# EAGLE library part IR2110 (library Labor)
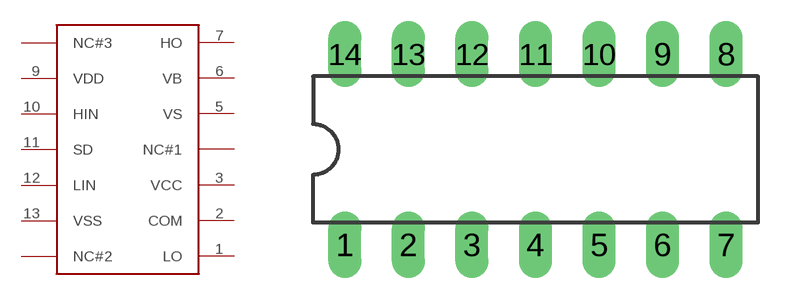
[diagram p16: symbol with the pads of DIL14; footprint DIL14]

Designator prefix -

## IR2110  [DIL14]
1  LO
2  COM
3  VCC
4  NC#1  nc
5  VS
6  VB
7  HO
8  NC#3  nc
9  VDD
10  HIN
11  SD
12  LIN
13  VSS
14  NC#2  nc

## Footprint DIL14 (pad centres in mm)
Dual In Line Package
drill 0.813 long: 1 -7.62,-3.81; 2 -5.08,-3.81; 3 -2.54,-3.81; 4 0,-3.81; 5 2.54,-3.81; 6 5.08,-3.81; 7 7.62,-3.81; 8 7.62,3.81; 9 5.08,3.81; 10 2.54,3.81; 11 0,3.81; 12 -2.54,3.81; 13 -5.08,3.81; 14 -7.62,3.81